# EAGLE library part EN5364QI (library Alpha-Power)
6A PowerSoC Voltage Mode Synchronous Buck PWM DC-DC Converter With Integrated Inductor
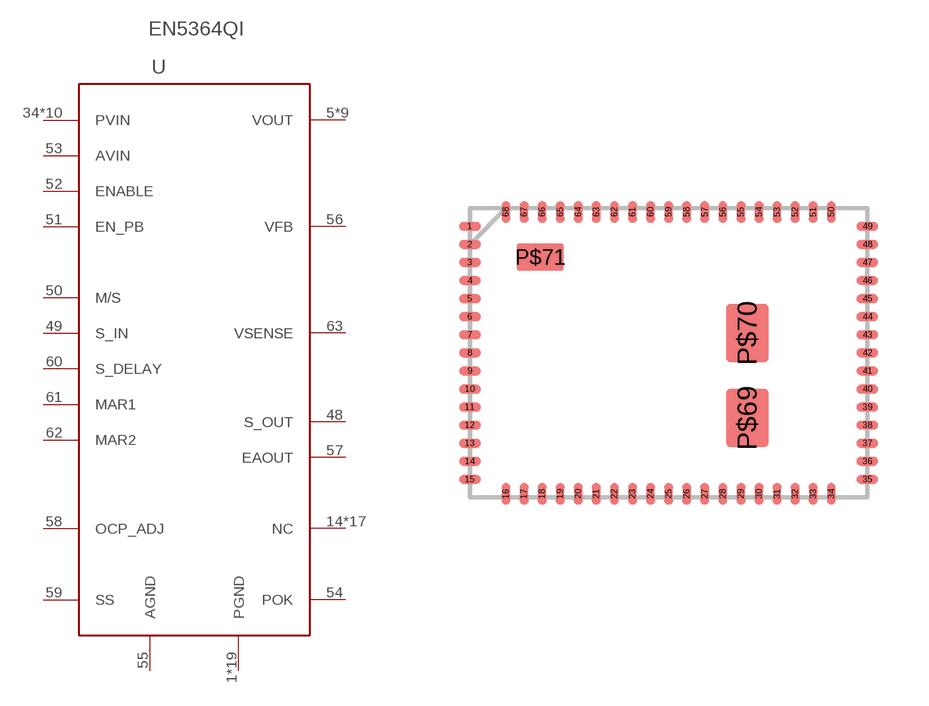
[diagram p3: symbol with the pads of QFN68_8X11X1.85; footprint QFN68_8X11X1.85]

Designator prefix U

## EN5364QI (MPN: EN5364QI; OC_FARNELL: 2081142; PACKAGE: QFN; SUPPLIER: ENPIRION)  [QFN68_8X11X1.85]
1  PGND  pwr
2  PGND  pwr
3  PGND  pwr
4  PGND  pwr
5  VOUT  pwr
6  VOUT  pwr
7  VOUT  pwr
8  VOUT  pwr
9  VOUT  pwr
10  VOUT  pwr
11  VOUT  pwr
12  VOUT  pwr
13  VOUT  pwr
14  NC  nc
15  NC  nc
16  NC  nc
17  NC  nc
18  NC  nc
19  NC  nc
20  NC  nc
21  NC  nc
22  NC  nc
23  NC  nc
24  NC  nc
25  NC  nc
26  NC  nc
27  PGND  pwr
28  PGND  pwr
29  PGND  pwr
30  PGND  pwr
31  PGND  pwr
32  PGND  pwr
33  PGND  pwr
34  PVIN  pwr
35  PVIN  pwr
36  PVIN  pwr
37  PVIN  pwr
38  PVIN  pwr
39  PVIN  pwr
40  PVIN  pwr
41  PVIN  pwr
42  PVIN  pwr
43  PVIN  pwr
44  NC  nc
45  NC  nc
46  NC  nc
47  NC  nc
48  S_OUT  out
49  S_IN  in
50  M/S  in
51  EN_PB  in
52  ENABLE  in
53  AVIN  pwr
54  POK  out
55  AGND  pwr
56  VFB
57  EAOUT  out
58  OCP_ADJ  in
59  SS  in
60  S_DELAY  in
61  MAR1  in
62  MAR2  in
63  VSENSE
64  PGND  pwr
65  PGND  pwr
66  PGND  pwr
67  PGND  pwr
68  PGND  pwr
P$69  PGND  pwr
P$70  PGND  pwr
P$71  PGND  pwr

## Footprint QFN68_8X11X1.85 (pad centres in mm)
Altera EN5364QI 68-pin QFP
smd 0.6 x 0.25: 1 -5.5,3.5; 2 -5.5,3; 3 -5.5,2.5; 4 -5.5,2; 5 -5.5,1.5; 6 -5.5,1; 7 -5.5,0.5; 8 -5.5,0; 9 -5.5,-0.5; 10 -5.5,-1; 11 -5.5,-1.5; 12 -5.5,-2; 13 -5.5,-2.5; 14 -5.5,-3; 15 -5.5,-3.5; 35 5.5,-3.5; 36 5.5,-3; 37 5.5,-2.5; 38 5.5,-2; 39 5.5,-1.5; 40 5.5,-1; 41 5.5,-0.5; 42 5.5,0; 43 5.5,0.5; 44 5.5,1; 45 5.5,1.5; 46 5.5,2; 47 5.5,2.5; 48 5.5,3; 49 5.5,3.5
smd 0.25 x 0.6: 16 -4.5,-3.9; 17 -4,-3.9; 18 -3.5,-3.9; 19 -3,-3.9; 20 -2.5,-3.9; 21 -2,-3.9; 22 -1.5,-3.9; 23 -1,-3.9; 24 -0.5,-3.9; 25 0,-3.9; 26 0.5,-3.9; 27 1,-3.9; 28 1.5,-3.9; 29 2,-3.9; 30 2.5,-3.9; 31 3,-3.9; 32 3.5,-3.9; 33 4,-3.9; 34 4.5,-3.9; 50 4.5,3.9; 51 4,3.9; 52 3.5,3.9; 53 3,3.9; 54 2.5,3.9; 55 2,3.9; 56 1.5,3.9; 57 1,3.9; 58 0.5,3.9; 59 0,3.9; 60 -0.5,3.9; 61 -1,3.9; 62 -1.5,3.9; 63 -2,3.9; 64 -2.5,3.9; 65 -3,3.9; 66 -3.5,3.9; 67 -4,3.9; 68 -4.5,3.9
smd 1.175 x 1.605: P$69 2.175,-1.8; P$70 2.175,0.55
smd 1.3 x 0.75: P$71 -3.55,2.65